# EAGLE library part FT2232HL-REEL (library sjg-pixl)
FTDI Chip FT2232HL-REEL, USB Controller, 4-channel, 480MBps, USB 2.0, 64-Pin LQFP Source: Datasheet <http://www.ftdichip.com/Support/Documents/DataSheets/ICs/DS_FT2232H.pdf>
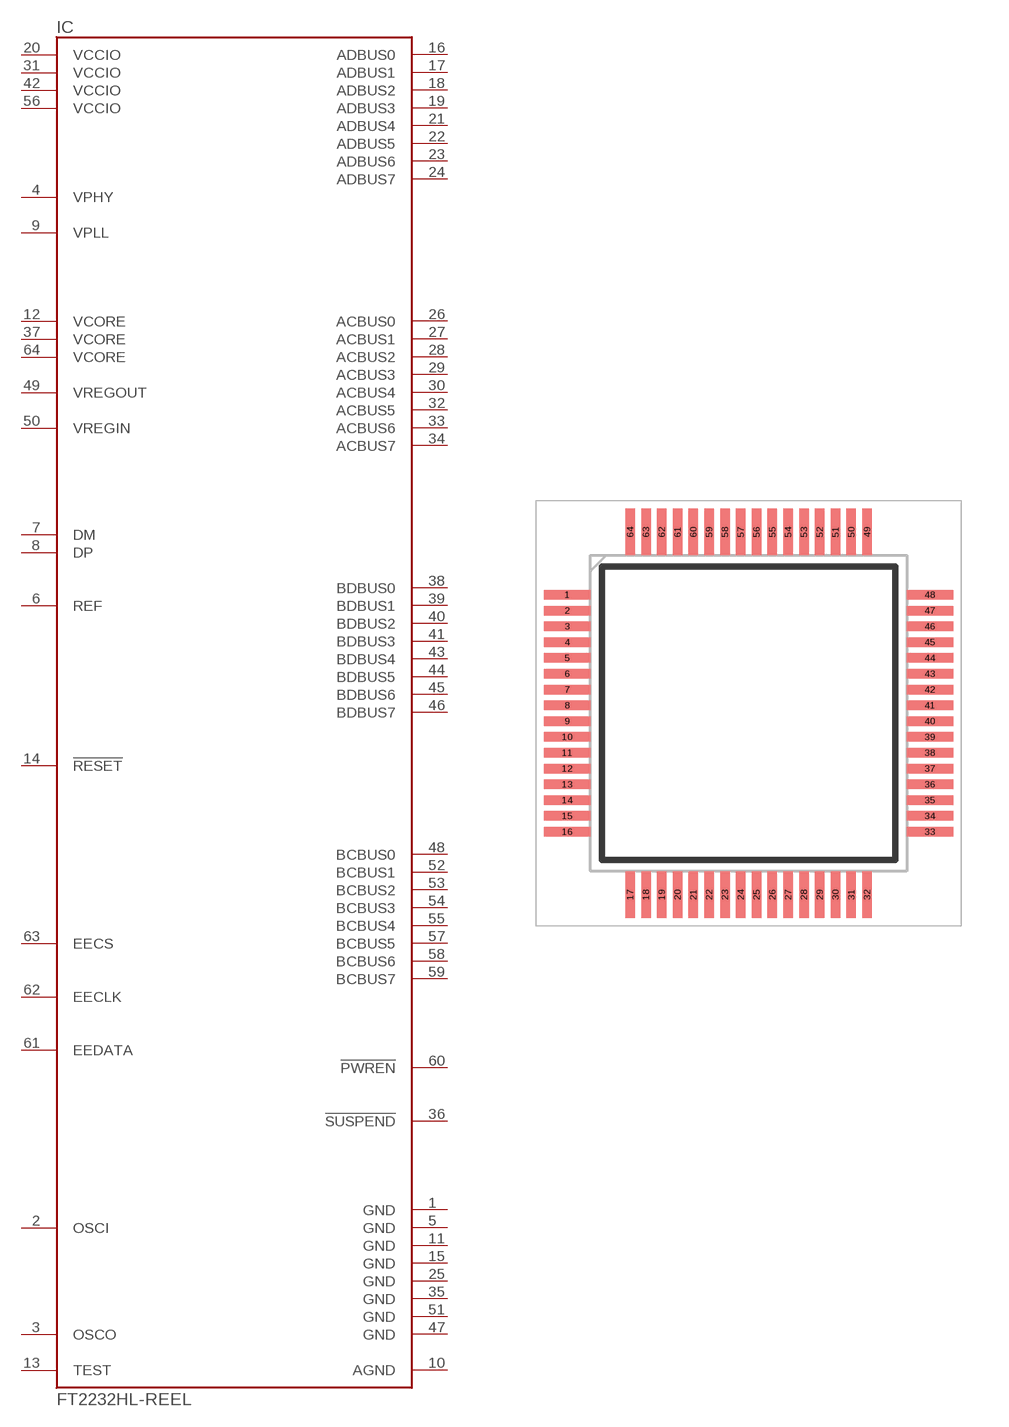
[diagram p5: symbol with the pads of QFP50P1200X1200X160-64N; footprint QFP50P1200X1200X160-64N]

Designator prefix IC

## FT2232HL-REEL (ARROW_PART_NUMBER: FT2232HL-REEL; ARROW_PRICE-STOCK: https://www.arrow.com/en/products/ft2232hl-reel/ftdi-chip; DESCRIPTION: FTDI Chip FT2232HL-REEL, USB Controller, 4-channel, 480MBps, USB 2.0, 64-Pin LQFP; HEIGHT: 1.6mm; MANUFACTURER_NAME: FTDI Chip; MANUFACTURER_PART_NUMBER: FT2232HL-REEL; MOUSER_PART_NUMBER: 895-FT2232HL; MOUSER_PRICE-STOCK: https://www.mouser.co.uk/ProductDetail/FTDI/FT2232HL-REEL?qs=D1%2FPMqvA100v7FHcEx164g%3D%3D)  [QFP50P1200X1200X160-64N]
1  GND
2  OSCI
3  OSCO
4  VPHY
5  GND
6  REF
7  DM
8  DP
9  VPLL
10  AGND
11  GND
12  VCORE
13  TEST
14  !RESET!
15  GND
16  ADBUS0
17  ADBUS1
18  ADBUS2
19  ADBUS3
20  VCCIO
21  ADBUS4
22  ADBUS5
23  ADBUS6
24  ADBUS7
25  GND
26  ACBUS0
27  ACBUS1
28  ACBUS2
29  ACBUS3
30  ACBUS4
31  VCCIO
32  ACBUS5
33  ACBUS6
34  ACBUS7
35  GND
36  !SUSPEND!
37  VCORE
38  BDBUS0
39  BDBUS1
40  BDBUS2
41  BDBUS3
42  VCCIO
43  BDBUS4
44  BDBUS5
45  BDBUS6
46  BDBUS7
47  GND
48  BCBUS0
49  VREGOUT
50  VREGIN
51  GND
52  BCBUS1
53  BCBUS2
54  BCBUS3
55  BCBUS4
56  VCCIO
57  BCBUS5
58  BCBUS6
59  BCBUS7
60  !PWREN!
61  EEDATA
62  EECLK
63  EECS
64  VCORE

## Footprint QFP50P1200X1200X160-64N (pad centres in mm)
LQFP-64
smd 1.475 x 0.3: 1 -5.738,3.75; 2 -5.738,3.25; 3 -5.738,2.75; 4 -5.738,2.25; 5 -5.738,1.75; 6 -5.738,1.25; 7 -5.738,0.75; 8 -5.738,0.25; 9 -5.738,-0.25; 10 -5.738,-0.75; 11 -5.738,-1.25; 12 -5.738,-1.75; 13 -5.738,-2.25; 14 -5.738,-2.75; 15 -5.738,-3.25; 16 -5.738,-3.75; 33 5.738,-3.75; 34 5.738,-3.25; 35 5.738,-2.75; 36 5.738,-2.25; 37 5.738,-1.75; 38 5.738,-1.25; 39 5.738,-0.75; 40 5.738,-0.25; 41 5.738,0.25; 42 5.738,0.75; 43 5.738,1.25; 44 5.738,1.75; 45 5.738,2.25; 46 5.738,2.75; 47 5.738,3.25; 48 5.738,3.75
smd 0.3 x 1.475: 17 -3.75,-5.738; 18 -3.25,-5.738; 19 -2.75,-5.738; 20 -2.25,-5.738; 21 -1.75,-5.738; 22 -1.25,-5.738; 23 -0.75,-5.738; 24 -0.25,-5.738; 25 0.25,-5.738; 26 0.75,-5.738; 27 1.25,-5.738; 28 1.75,-5.738; 29 2.25,-5.738; 30 2.75,-5.738; 31 3.25,-5.738; 32 3.75,-5.738; 49 3.75,5.738; 50 3.25,5.738; 51 2.75,5.738; 52 2.25,5.738; 53 1.75,5.738; 54 1.25,5.738; 55 0.75,5.738; 56 0.25,5.738; 57 -0.25,5.738; 58 -0.75,5.738; 59 -1.25,5.738; 60 -1.75,5.738; 61 -2.25,5.738; 62 -2.75,5.738; 63 -3.25,5.738; 64 -3.75,5.738